# EAGLE library part NUMPAD (library EE445L)
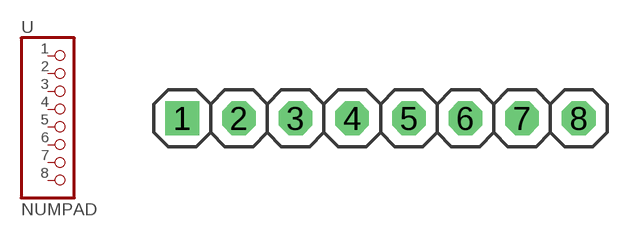
[diagram p46: symbol with the pads of NUMPAD; footprint NUMPAD]

Designator prefix -

## NUMPAD  [NUMPAD]
1  1  pas
2  2  pas
3  3  pas
4  4  pas
5  5  pas
6  6  pas
7  7  pas
8  8  pas

## Footprint NUMPAD (pad centres in mm)
drill 1 square: 1 -8.89,0
drill 1 octagon: 2 -6.35,0; 3 -3.81,0; 4 -1.27,0; 5 1.27,0; 6 3.81,0; 7 6.35,0; 8 8.89,0